# EAGLE library part IBMAB (library Stecker_Pins)
IBM Board
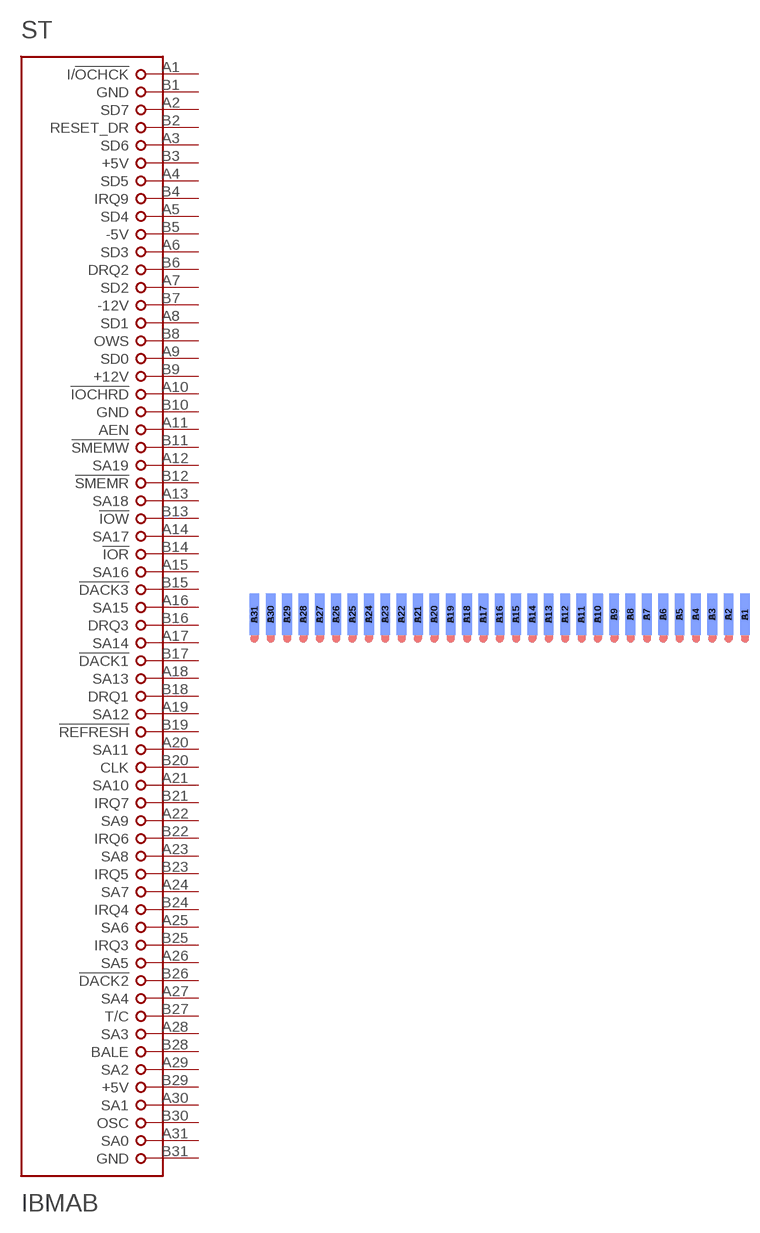
[diagram p10: symbol with the pads of IBMAB; footprint IBMAB]

Designator prefix ST

## IBMAB  [IBMAB]
A1  I/!OCHCK  in
A2  SD7
A3  SD6
A4  SD5
A5  SD4
A6  SD3
A7  SD2
A8  SD1
A9  SD0
A10  !IOCHRD  in
A11  AEN  out
A12  SA19
A13  SA18
A14  SA17
A15  SA16
A16  SA15
A17  SA14
A18  SA13
A19  SA12
A20  SA11
A21  SA10
A22  SA9
A23  SA8
A24  SA7
A25  SA6
A26  SA5
A27  SA4
A28  SA3
A29  SA2
A30  SA1
A31  SA0
B1  GND  pwr
B2  RESET_DR  out
B3  +5V  pwr
B4  IRQ9  in
B5  -5V  pwr
B6  DRQ2  in
B7  -12V  pwr
B8  OWS  in
B9  +12V  pwr
B10  GND  pwr
B11  !SMEMW  out
B12  !SMEMR  out
B13  !IOW
B14  !IOR
B15  !DACK3  out
B16  DRQ3  in
B17  !DACK1  out
B18  DRQ1  in
B19  !REFRESH
B20  CLK  out
B21  IRQ7  in
B22  IRQ6  in
B23  IRQ5  in
B24  IRQ4  in
B25  IRQ3  in
B26  !DACK2  out
B27  T/C  out
B28  BALE  out
B29  +5V  pwr
B30  OSC  out
B31  GND  pwr

## Footprint IBMAB (pad centres in mm)
smd 1.524 x 6.477 bottom: A1 0,0; A2 -2.54,0; A3 -5.08,0; A4 -7.62,0; A5 -10.16,0; A6 -12.7,0; A7 -15.24,0; A8 -17.78,0; A9 -20.32,0; A10 -22.86,0; A11 -25.4,0; A12 -27.94,0; A13 -30.48,0; A14 -33.02,0; A15 -35.56,0; A16 -38.1,0; A17 -40.64,0; A18 -43.18,0; A19 -45.72,0; A20 -48.26,0; A21 -50.8,0; A22 -53.34,0; A23 -55.88,0; A24 -58.42,0; A25 -60.96,0; A26 -63.5,0; A27 -66.04,0; A28 -68.58,0; A29 -71.12,0; A30 -73.66,0; A31 -76.2,0
smd 1.524 x 6.477: B1 0,0; B2 -2.54,0; B3 -5.08,0; B4 -7.62,0; B5 -10.16,0; B6 -12.7,0; B7 -15.24,0; B8 -17.78,0; B9 -20.32,0; B10 -22.86,0; B11 -25.4,0; B12 -27.94,0; B13 -30.48,0; B14 -33.02,0; B15 -35.56,0; B16 -38.1,0; B17 -40.64,0; B18 -43.18,0; B19 -45.72,0; B20 -48.26,0; B21 -50.8,0; B22 -53.34,0; B23 -55.88,0; B24 -58.42,0; B25 -60.96,0; B26 -63.5,0; B27 -66.04,0; B28 -68.58,0; B29 -71.12,0; B30 -73.66,0; B31 -76.2,0